# Altium footprint library SOIC127P600X175-8N.PcbLib: 1 footprints
Each footprint in its own frame and in the unit in brackets; x right, y up, seen from the top. Pads: shape width x height; smd on the part's side, far side on the other; paste and mask are expansions set on the pad; w line width, h text height; cw(c..) or ccw(c..) is an arc to the next point about the centre after c.
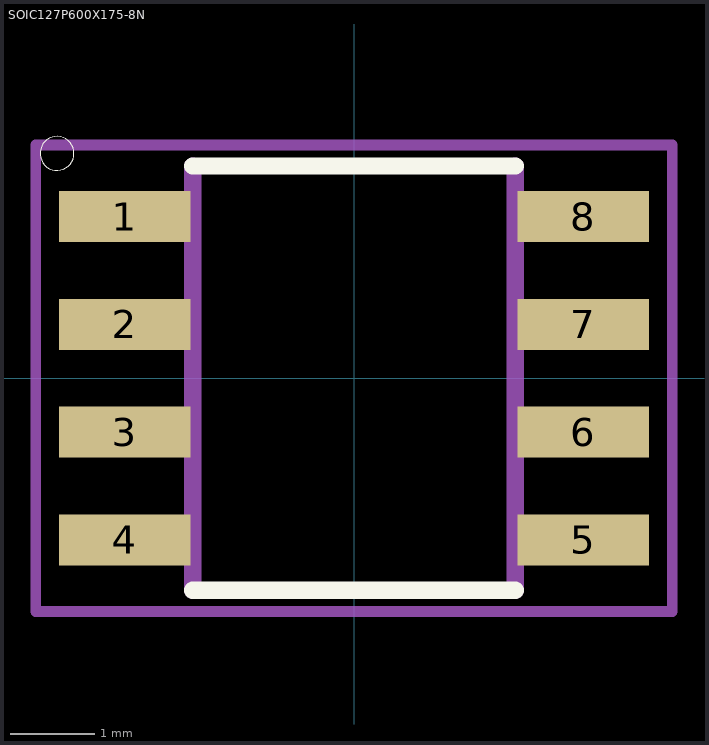
[diagram p0: the footprint, top view; thin cyan lines are the x and y axes]

## SOIC127P600X175-8N [mm]
pads (8):
  rect 1.55x0.6 smd: 1(-2.7,1.905) 2(-2.7,0.635) 3(-2.7,-0.635) 4(-2.7,-1.905) 5(2.7,-1.905) 6(2.7,-0.635) 7(2.7,0.635) 8(2.7,1.905)
Top Overlay:
  circle w0: c-3.5,2.65 r0.2
  lines w0.203: -1.9,-2.5 1.9,-2.5 ; -1.9,2.5 1.9,2.5
Mechanical 4:
  lines w0.203: -1.9,-2.5 -1.9,2.5 -1.9,-2.5 ; 1.9,-2.5 1.9,2.5 1.9,-2.5
Mechanical 16:
  lines w0.127: -3.75,-2.75 -3.75,2.75 3.75,2.75 3.75,-2.75 -3.75,-2.75